# Altium footprint library rcl_PTH.PCBLIB: 348 footprints (part 8 of 22)
Each footprint in its own frame and in the unit in brackets; x right, y up, seen from the top. Pads: shape width x height; smd on the part's side, far side on the other; paste and mask are expansions set on the pad; w line width, h text height; cw(c..) or ccw(c..) is an arc to the next point about the centre after c.
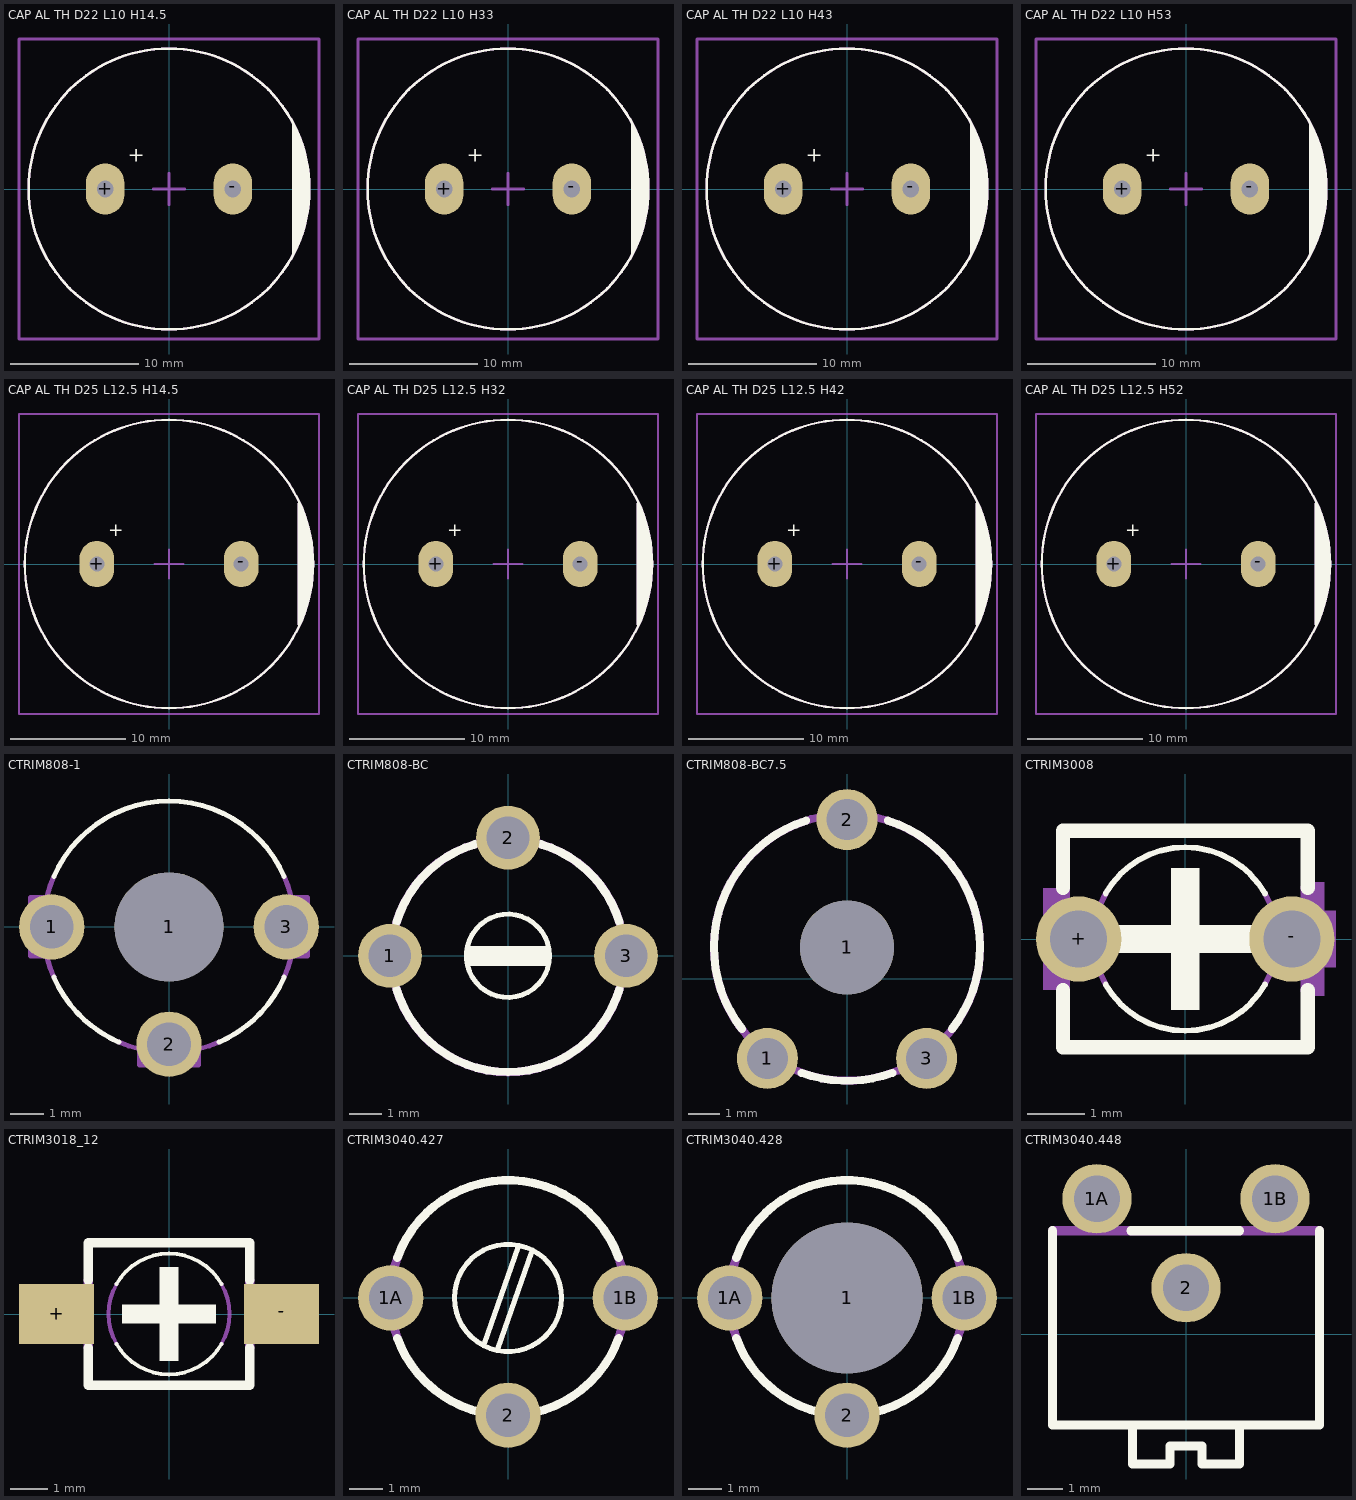
[diagram p7: the footprints below, top view; thin cyan lines are the x and y axes]

## CAP AL TH D22 L10 H14.5 [mm] "16MM Diameter, 7.5MM Lead Spacing Aluminium Capacitor"
height 14.5
pads (2):
  oval 3x4 hole 1.3: +(-5,0) -(5,0)
Top Overlay:
  circle w0.2: c0,0 r11
  region: 9.75,-5 9.75,5 10.75,2.5 11,1 11,0 11,-1 10.5,-3.25
  lines w0.2: 9.75,-5 9.75,5
  text "+" at -3.25,1.75 h2
Mechanical 13:
  circle w0.2: c0,0 r11
  lines w0.2: 9.75,-5 9.75,5
Mechanical 15:
  lines w0.2: -1.25,0 1.25,0 ; 0,-1.25 0,1.25 ; -11.75,-11.75 -11.75,11.75 11.75,11.75 11.75,-11.75 -11.75,-11.75
3D body "CAP ALTH D-22MM L-10MM H-14.5MM.STEP": height 14.7, standoff -3, extent -11,-10.99 11,10.991

## CAP AL TH D22 L10 H33 [mm] "16MM Diameter, 7.5MM Lead Spacing Aluminium Capacitor"
height 33
pads (2):
  oval 3x4 hole 1.3: +(-5,0) -(5,0)
Top Overlay:
  circle w0.2: c0,0 r11
  region: 9.75,-5 9.75,5 10.75,2.5 11,1 11,0 11,-1 10.5,-3.25
  lines w0.2: 9.75,-5 9.75,5
  text "+" at -3.25,1.75 h2
Mechanical 13:
  circle w0.2: c0,0 r11
  lines w0.2: 9.75,-5 9.75,5
Mechanical 15:
  lines w0.2: -1.25,0 1.25,0 ; 0,-1.25 0,1.25 ; -11.75,-11.75 11.75,-11.75 11.75,11.75 -11.75,11.75 -11.75,-11.75
3D body "CAP ALTH D-22MM L-10MM H-33MM.STEP": height 33.2, standoff -3, extent -11,-10.995 11,10.995

## CAP AL TH D22 L10 H43 [mm] "16MM Diameter, 7.5MM Lead Spacing Aluminium Capacitor"
height 43
pads (2):
  oval 3x4 hole 1.3: +(-5,0) -(5,0)
Top Overlay:
  circle w0.2: c0,0 r11
  region: 9.75,-5 9.75,5 10.75,2.5 11,1 11,0 11,-1 10.5,-3.25
  lines w0.2: 9.75,-5 9.75,5
  text "+" at -3.25,1.75 h2
Mechanical 13:
  circle w0.2: c0,0 r11
  lines w0.2: 9.75,-5 9.75,5
Mechanical 15:
  lines w0.2: -1.25,0 1.25,0 ; 0,-1.25 0,1.25 ; -11.75,-11.75 -11.75,11.75 11.75,11.75 11.75,-11.75 -11.75,-11.75
3D body "CAP ALTH D-22MM L-10MM H-43MM.STEP": height 43.2, standoff -3, extent -11,-10.983 11,10.984

## CAP AL TH D22 L10 H53 [mm] "16MM Diameter, 7.5MM Lead Spacing Aluminium Capacitor"
height 53
pads (2):
  oval 3x4 hole 1.3: +(-5,0) -(5,0)
Top Overlay:
  circle w0.2: c0,0 r11
  region: 9.75,-5 9.75,5 10.75,2.5 11,1 11,0 11,-1 10.5,-3.25
  lines w0.2: 9.75,-5 9.75,5
  text "+" at -3.25,1.75 h2
Mechanical 13:
  circle w0.2: c0,0 r11
  lines w0.2: 9.75,-5 9.75,5
Mechanical 15:
  lines w0.2: -1.25,0 1.25,0 ; 0,-1.25 0,1.25 ; -11.75,-11.75 11.75,-11.75 11.75,11.75 -11.75,11.75 -11.75,-11.75
3D body "CAP ALTH D-22MM L-10MM H-53MM.STEP": height 53.2, standoff -3, extent -11,-10.97 11,10.971

## CAP AL TH D25 L12.5 H14.5 [mm] "16MM Diameter, 7.5MM Lead Spacing Aluminium Capacitor"
height 14.5
pads (2):
  oval 3x4 hole 1.3: +(-6.25,0) -(6.25,0)
Top Overlay:
  circle w0.2: c0,0 r12.5
  region: 11.25,-5.25 11.25,5.375 12,3.5 12.25,2.5 12.5,1 12.5,0 12.5,-1 12,-3.5
  lines w0.2: 11.25,-5.25 11.25,5.25
  text "+" at -5.25,2 h2
Mechanical 13:
  circle w0.2: c0,0 r12.5
  lines w0.2: 11.25,-5.25 11.25,5.25
Mechanical 15:
  lines w0.2: -1.25,0 1.25,0 ; 0,-1.25 0,1.25 ; -13,-13 13,-13 13,13 -13,13 -13,-13
3D body "CAP ALTH D-25MM L-12.5MM H-14.5MM.STEP": height 14.7, standoff -3, extent -12.5,-12.489 12.5,12.489

## CAP AL TH D25 L12.5 H32 [mm] "16MM Diameter, 7.5MM Lead Spacing Aluminium Capacitor"
height 32
pads (2):
  oval 3x4 hole 1.3: +(-6.25,0) -(6.25,0)
Top Overlay:
  circle w0.2: c0,0 r12.5
  region: 11.25,-5.25 11.25,5.375 12,3.5 12.25,2.5 12.5,1 12.5,0 12.5,-1 12,-3.5
  lines w0.2: 11.25,-5.25 11.25,5.25
  text "+" at -5.25,2 h2
Mechanical 13:
  circle w0.2: c0,0 r12.5
  lines w0.2: 11.25,-5.25 11.25,5.25
Mechanical 15:
  lines w0.2: -1.25,0 1.25,0 ; 0,-1.25 0,1.25 ; -13,-13 13,-13 13,13 -13,13 -13,-13
3D body "CAP ALTH D-25MM L-12.5MM H-32MM.STEP": height 32.2, standoff -3, extent -12.5,-12.49 12.5,12.491

## CAP AL TH D25 L12.5 H42 [mm] "16MM Diameter, 7.5MM Lead Spacing Aluminium Capacitor"
height 42
pads (2):
  oval 3x4 hole 1.3: +(-6.25,0) -(6.25,0)
Top Overlay:
  circle w0.2: c0,0 r12.5
  region: 11.25,-5.25 11.25,5.375 12,3.5 12.25,2.5 12.5,1 12.5,0 12.5,-1 12,-3.5
  lines w0.2: 11.25,-5.25 11.25,5.25
  text "+" at -5.25,2 h2
Mechanical 13:
  circle w0.2: c0,0 r12.5
  lines w0.2: 11.25,-5.25 11.25,5.25
Mechanical 15:
  lines w0.2: -1.25,0 1.25,0 ; 0,-1.25 0,1.25 ; -13,-13 13,-13 13,13 -13,13 -13,-13
3D body "CAP ALTH D-25MM L-12.5MM H-42MM.STEP": height 42.2, standoff -3, extent -12.5,-12.491 12.5,12.492

## CAP AL TH D25 L12.5 H52 [mm] "16MM Diameter, 7.5MM Lead Spacing Aluminium Capacitor"
height 52
pads (2):
  oval 3x4 hole 1.3: +(-6.25,0) -(6.25,0)
Top Overlay:
  circle w0.2: c0,0 r12.5
  region: 11.25,-5.25 11.25,5.375 12,3.5 12.25,2.5 12.5,1 12.5,0 12.5,-1 12,-3.5
  lines w0.2: 11.25,-5.25 11.25,5.25
  text "+" at -5.25,2 h2
Mechanical 13:
  circle w0.2: c0,0 r12.5
  lines w0.2: 11.25,-5.25 11.25,5.25
Mechanical 15:
  lines w0.2: -1.25,0 1.25,0 ; 0,-1.25 0,1.25 ; -13,-13 -13,13 13,13 13,-13 -13,-13
3D body "CAP ALTH D-25MM L-12.5MM H-52MM.STEP": height 52.2, standoff -3, extent -12.5,-12.481 12.5,12.481

## CTRIM808-1 [mil]
pads (4):
  round 78 hole 52: 1(-140,0) 2(0,-140) 3(140,0)
  round 130 hole 130: 1(0,0)
Top Overlay:
  circle w6: c0,0 r50
  rectangle: -50,-10 50,10
  lines w6: -137.5,-59.95 ccw(c0,0) -59.95,-137.5 ; -137.5,59.95 cw(c0,0) 137.5,59.95 ; -48.99,-10 48.99,-10 ; -48.99,10 48.99,10 ; 59.95,-137.5 ccw(c0,0) 137.5,-59.95
Mechanical 16:
  lines w6: -145.87,-35 -165,-35 -165,35 -145.87,35 ; -137.5,-59.95 cw(c0,0) -137.5,59.95 ; -59.95,-137.5 ccw(c0,0) 59.95,-137.5 ; -35,-145.87 -35,-165 35,-165 35,-145.87 ; 137.5,-59.95 ccw(c0,0) 137.5,59.95 ; 145.87,-35 165,-35 165,35 145.87,35

## CTRIM808-BC [mil]
pads (3):
  round 76.77 hole 51.18: 1(-142,0) 2(0,142) 3(142,0)
Top Overlay:
  circle w6: c0,0 r50.04
  rectangle: -48,-12 48,12
  lines w10: -134,-40 ccw(c0,0) 134,-40 ; -134,40 cw(c0,0) -40,134 ; 40,134 cw(c0,0) 134,40
Mechanical 16:
  circle w10: c0,0 r140

## CTRIM808-BC7.5 [mm]
pads (4):
  round 1.95 hole 1.3: 1(-2.54,-2.54) 2(0,5.08) 3(2.54,-2.54)
  round 3 hole 3: 1(0,1)
Top Overlay:
  circle w0.152: c0,1 r1.271
  rectangle: -1.219,0.695 1.219,1.305
  lines w0.254: -3.35,-1.6 cw(c0,1.008) -1.3,5.05 ; -1.45,-3 ccw(c0,1) 1.45,-3 ; 1.3,5.05 cw(c0,1.008) 3.35,-1.6
Mechanical 16:
  circle w0.254: c0,1 r4.25

## CTRIM3008 [mm]
pads (2):
  round 1.5 hole 1: +(-1.875,0) -(1.875,0)
Top Overlay:
  rectangle: -0.25,-1.25 0.25,1.25
  rectangle: -1.25,-0.25 1.25,0.25
  lines w0.102: -1.4,-0.8 ccw(c0,0) 1.4,-0.8 ; -1.4,0.8 cw(c0,0) 1.4,0.8
  lines w0.254: -2.15,-0.9 -2.15,-1.9 2.15,-1.9 2.15,-0.9 ; -2.15,0.9 -2.15,1.9 2.15,1.9 2.15,0.9
Mechanical 16:
  rectangle: -2.5,-0.9 -2.25,0.9
  rectangle: 2.25,-1 2.45,1
  rectangle: 2.45,-0.5 2.65,0.5
  lines w0.102: -1.4,-0.8 cw(c0,0) -1.4,0.8 ; 1.4,-0.8 ccw(c0,0) 1.4,0.8
  lines w0.254: -2.15,-0.9 -2.15,0.9 ; 2.15,-0.9 2.15,0.9

## CTRIM3018_12 [mm]
pads (2):
  rect 2x1.6 smd: +(-3,0) -(3,0)
Top Overlay:
  rectangle: -0.25,-1.25 0.25,1.25
  rectangle: -1.25,-0.25 1.25,0.25
  lines w0.102: -1.4,-0.8 ccw(c0,0) 1.4,-0.8 ; -1.4,0.8 cw(c0,0) 1.4,0.8
  lines w0.254: -2.15,-0.9 -2.15,-1.9 2.15,-1.9 2.15,-0.9 ; -2.15,0.9 -2.15,1.9 2.15,1.9 2.15,0.9
Mechanical 16:
  rectangle: -3.5,-0.6 -2.25,0.6
  rectangle: 2.25,-0.6 3.5,0.6
  lines w0.102: -1.4,-0.8 cw(c0,0) -1.4,0.8 ; 1.4,-0.8 ccw(c0,0) 1.4,0.8
  lines w0.254: -2.15,-0.9 -2.15,0.9 ; 2.15,-0.9 2.15,0.9

## CTRIM3040.427 [mil]
pads (3):
  round 76.77 hole 51.18: 1A(-137.8,0) 1B(137.8,0) 2(0,-137.8)
Top Overlay:
  circle w6: c0,0 r62.99
  lines w6: -27.56,-53.15 11.81,59.06 ; -11.81,-59.06 27.56,53.15
  lines w10: -129.92,-47.24 ccw(c0,0) 129.92,-47.24 ; -129.92,47.24 cw(c0,0) 129.92,47.24
Mechanical 16:
  rectangle: -153.54,-23.62 -137.8,23.62
  rectangle: 137.8,-23.62 153.54,23.62
  rectangle: -23.62,-153.54 23.62,-137.8
  lines w10: -129.92,-47.24 cw(c-0.01,0) -129.92,47.24 ; 129.92,-47.24 ccw(c0.01,0) 129.92,47.24

## CTRIM3040.428 [mil]
pads (4):
  round 177.17 hole 177.17: 1(0,0)
  round 76.77 hole 51.18: 1A(-137.8,0) 1B(137.8,0) 2(0,-137.8)
Top Overlay:
  circle w6: c0,0 r62.99
  lines w6: -27.56,-51.18 11.81,59.06 ; -11.81,-59.06 27.56,51.18
  lines w10: -129.92,-47.24 ccw(c0,0) 129.92,-47.24 ; -129.92,47.24 cw(c0,0) 129.92,47.24
Mechanical 16:
  rectangle: -23.62,-153.54 23.62,-137.8
  rectangle: 137.8,-23.62 153.54,23.62
  rectangle: -153.54,-23.62 -137.8,23.62
  lines w10: -129.92,-47.24 cw(c-0.01,0) -129.92,47.24 ; 129.92,-47.24 ccw(c0.01,0) 129.92,47.24

## CTRIM3040.448 [mil]
pads (3):
  round 76.77 hole 51.18: 1A(-98.43,150) 1B(98.43,150) 2(0,51.57)
Top Overlay:
  lines w10: -147.64,114.57 -147.64,-100 147.64,-100 147.64,114.57 ; -61.02,114.57 59.06,114.57 ; -59.06,-103.94 -59.06,-143.31 -17.72,-143.31 -17.72,-123.62 17.72,-123.62 17.72,-143.31 59.06,-143.31 59.06,-103.94
Mechanical 16:
  rectangle: -110.24,118.5 -86.61,179.53
  rectangle: 86.61,118.5 110.24,179.53
  lines w10: -147.64,114.57 147.64,114.57